# Altium footprint library BGA_Sq_150P.PcbLib: 51 footprints (part 4 of 7)
Each footprint in its own frame and in the unit in brackets; x right, y up, seen from the top. Pads: shape width x height; smd on the part's side, far side on the other; paste and mask are expansions set on the pad; w line width, h text height; cw(c..) or ccw(c..) is an arc to the next point about the centre after c.
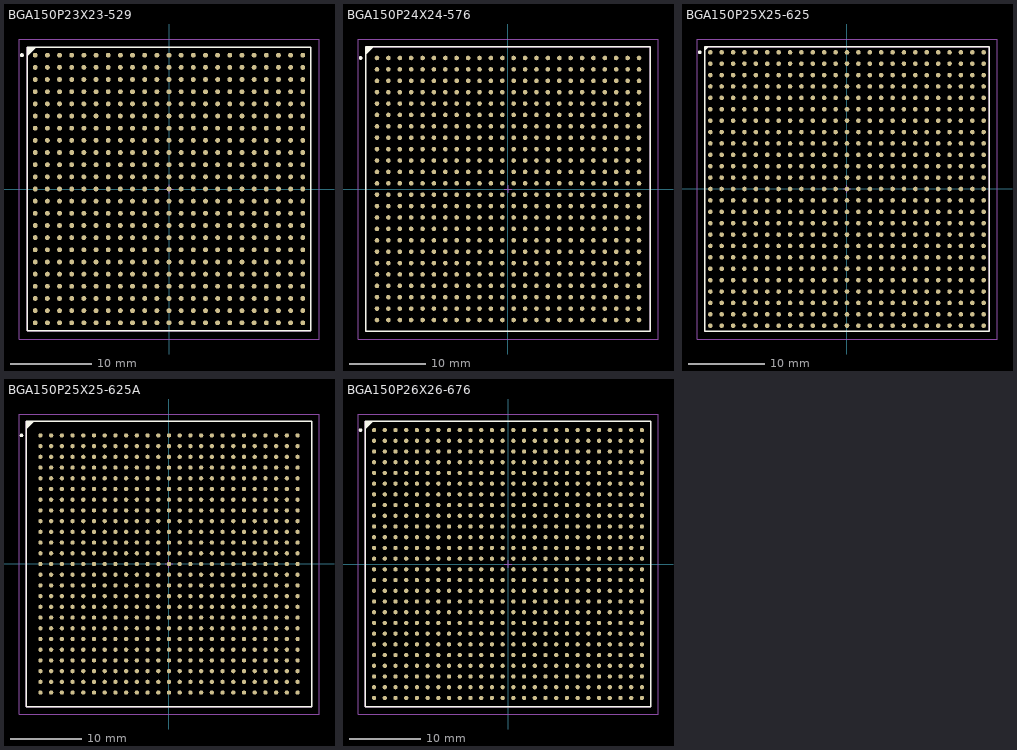
[diagram p3: the footprints below, top view; thin cyan lines are the x and y axes]

## BGA150P23X23-529 [mm] "BGA, 529-Leads, Body 35x35mm, Pitch 1.5mm"
height 3.5
pads (529):
  round 0.6 smd: A1(-16.5,16.5) A2(-15,16.5) A3(-13.5,16.5) A4(-12,16.5) A5(-10.5,16.5) A6(-9,16.5) A7(-7.5,16.5) A8(-6,16.5) A9(-4.5,16.5) A10(-3,16.5) A11(-1.5,16.5) A12(0,16.5) A13(1.5,16.5) A14(3,16.5) A15(4.5,16.5) A16(6,16.5) A17(7.5,16.5) A18(9,16.5) A19(10.5,16.5) A20(12,16.5) A21(13.5,16.5) A22(15,16.5) A23(16.5,16.5) AA1(-16.5,-13.5) AA2(-15,-13.5) AA3(-13.5,-13.5) AA4(-12,-13.5) AA5(-10.5,-13.5) AA6(-9,-13.5) AA7(-7.5,-13.5) AA8(-6,-13.5) AA9(-4.5,-13.5) AA10(-3,-13.5) AA11(-1.5,-13.5) AA12(0,-13.5) AA13(1.5,-13.5) AA14(3,-13.5) AA15(4.5,-13.5) AA16(6,-13.5) AA17(7.5,-13.5) AA18(9,-13.5) AA19(10.5,-13.5) AA20(12,-13.5) AA21(13.5,-13.5) AA22(15,-13.5) AA23(16.5,-13.5) AB1(-16.5,-15) AB2(-15,-15) AB3(-13.5,-15) AB4(-12,-15) AB5(-10.5,-15) AB6(-9,-15) AB7(-7.5,-15) AB8(-6,-15) AB9(-4.5,-15) AB10(-3,-15) AB11(-1.5,-15) AB12(0,-15) AB13(1.5,-15) AB14(3,-15) AB15(4.5,-15) AB16(6,-15) AB17(7.5,-15) AB18(9,-15) AB19(10.5,-15) AB20(12,-15) AB21(13.5,-15) AB22(15,-15) AB23(16.5,-15) AC1(-16.5,-16.5) AC2(-15,-16.5) AC3(-13.5,-16.5) AC4(-12,-16.5) AC5(-10.5,-16.5) AC6(-9,-16.5) AC7(-7.5,-16.5) AC8(-6,-16.5) AC9(-4.5,-16.5) AC10(-3,-16.5) AC11(-1.5,-16.5) AC12(0,-16.5) AC13(1.5,-16.5) AC14(3,-16.5) AC15(4.5,-16.5) AC16(6,-16.5) AC17(7.5,-16.5) AC18(9,-16.5) AC19(10.5,-16.5) AC20(12,-16.5) AC21(13.5,-16.5) AC22(15,-16.5) AC23(16.5,-16.5) B1(-16.5,15) B2(-15,15) B3(-13.5,15) B4(-12,15) B5(-10.5,15) B6(-9,15) B7(-7.5,15) B8(-6,15) B9(-4.5,15) B10(-3,15) B11(-1.5,15) B12(0,15) B13(1.5,15) B14(3,15) B15(4.5,15) B16(6,15) B17(7.5,15) B18(9,15) B19(10.5,15) B20(12,15) B21(13.5,15) B22(15,15) B23(16.5,15) C1(-16.5,13.5) C2(-15,13.5) C3(-13.5,13.5) C4(-12,13.5) C5(-10.5,13.5) C6(-9,13.5) C7(-7.5,13.5) C8(-6,13.5) C9(-4.5,13.5) C10(-3,13.5) C11(-1.5,13.5) C12(0,13.5) C13(1.5,13.5) C14(3,13.5) C15(4.5,13.5) C16(6,13.5) C17(7.5,13.5) C18(9,13.5) C19(10.5,13.5) C20(12,13.5) C21(13.5,13.5) C22(15,13.5) C23(16.5,13.5) D1(-16.5,12) D2(-15,12) D3(-13.5,12) D4(-12,12) D5(-10.5,12) D6(-9,12) D7(-7.5,12) D8(-6,12) D9(-4.5,12) D10(-3,12) D11(-1.5,12) D12(0,12) D13(1.5,12) D14(3,12) D15(4.5,12) D16(6,12) D17(7.5,12) D18(9,12) D19(10.5,12) D20(12,12) D21(13.5,12) D22(15,12) D23(16.5,12) E1(-16.5,10.5) E2(-15,10.5) E3(-13.5,10.5) E4(-12,10.5) E5(-10.5,10.5) E6(-9,10.5) E7(-7.5,10.5) E8(-6,10.5) E9(-4.5,10.5) E10(-3,10.5) E11(-1.5,10.5) E12(0,10.5) E13(1.5,10.5) E14(3,10.5) E15(4.5,10.5) E16(6,10.5) E17(7.5,10.5) E18(9,10.5) E19(10.5,10.5) E20(12,10.5) E21(13.5,10.5) E22(15,10.5) E23(16.5,10.5) F1(-16.5,9) F2(-15,9) F3(-13.5,9) F4(-12,9) F5(-10.5,9) F6(-9,9) F7(-7.5,9) F8(-6,9) F9(-4.5,9) F10(-3,9) F11(-1.5,9) F12(0,9) F13(1.5,9) F14(3,9) F15(4.5,9) F16(6,9) F17(7.5,9) F18(9,9) F19(10.5,9) F20(12,9) F21(13.5,9) F22(15,9) F23(16.5,9) G1(-16.5,7.5) G2(-15,7.5) G3(-13.5,7.5) G4(-12,7.5) G5(-10.5,7.5) G6(-9,7.5) G7(-7.5,7.5) G8(-6,7.5) G9(-4.5,7.5) G10(-3,7.5) G11(-1.5,7.5) G12(0,7.5) G13(1.5,7.5) G14(3,7.5) G15(4.5,7.5) G16(6,7.5) G17(7.5,7.5) G18(9,7.5) G19(10.5,7.5) G20(12,7.5) G21(13.5,7.5) G22(15,7.5) G23(16.5,7.5) H1(-16.5,6) H2(-15,6) H3(-13.5,6) H4(-12,6) H5(-10.5,6) H6(-9,6) H7(-7.5,6) H8(-6,6) H9(-4.5,6) H10(-3,6) H11(-1.5,6) H12(0,6) H13(1.5,6) H14(3,6) H15(4.5,6) H16(6,6) H17(7.5,6) H18(9,6) H19(10.5,6) H20(12,6) H21(13.5,6) H22(15,6) H23(16.5,6) J1(-16.5,4.5) J2(-15,4.5) J3(-13.5,4.5) J4(-12,4.5) J5(-10.5,4.5) J6(-9,4.5) J7(-7.5,4.5) J8(-6,4.5) J9(-4.5,4.5) J10(-3,4.5) J11(-1.5,4.5) J12(0,4.5) J13(1.5,4.5) J14(3,4.5) J15(4.5,4.5) J16(6,4.5) J17(7.5,4.5) J18(9,4.5) J19(10.5,4.5) J20(12,4.5) J21(13.5,4.5) J22(15,4.5) J23(16.5,4.5) K1(-16.5,3) K2(-15,3) K3(-13.5,3) K4(-12,3) K5(-10.5,3) K6(-9,3) K7(-7.5,3) K8(-6,3) K9(-4.5,3) K10(-3,3) K11(-1.5,3) K12(0,3) K13(1.5,3) K14(3,3) K15(4.5,3) K16(6,3) K17(7.5,3) K18(9,3) K19(10.5,3) K20(12,3) K21(13.5,3) K22(15,3) K23(16.5,3) L1(-16.5,1.5) L2(-15,1.5) L3(-13.5,1.5) L4(-12,1.5) L5(-10.5,1.5) L6(-9,1.5) L7(-7.5,1.5) L8(-6,1.5) L9(-4.5,1.5) L10(-3,1.5) L11(-1.5,1.5) L12(0,1.5) L13(1.5,1.5) L14(3,1.5) L15(4.5,1.5) L16(6,1.5) L17(7.5,1.5) L18(9,1.5) L19(10.5,1.5) L20(12,1.5) L21(13.5,1.5) L22(15,1.5) L23(16.5,1.5) M1(-16.5,0) M2(-15,0) M3(-13.5,0) M4(-12,0) M5(-10.5,0) M6(-9,0) M7(-7.5,0) M8(-6,0) M9(-4.5,0) M10(-3,0) M11(-1.5,0) M12(0,0) M13(1.5,0) M14(3,0) M15(4.5,0) M16(6,0) M17(7.5,0) M18(9,0) M19(10.5,0) M20(12,0) M21(13.5,0) M22(15,0) M23(16.5,0) N1(-16.5,-1.5) N2(-15,-1.5) N3(-13.5,-1.5) N4(-12,-1.5) N5(-10.5,-1.5) N6(-9,-1.5) N7(-7.5,-1.5) N8(-6,-1.5) N9(-4.5,-1.5) N10(-3,-1.5) N11(-1.5,-1.5) N12(0,-1.5) N13(1.5,-1.5) N14(3,-1.5) N15(4.5,-1.5) N16(6,-1.5) N17(7.5,-1.5) N18(9,-1.5) N19(10.5,-1.5) N20(12,-1.5) N21(13.5,-1.5) N22(15,-1.5) N23(16.5,-1.5) P1(-16.5,-3) P2(-15,-3) P3(-13.5,-3) P4(-12,-3) P5(-10.5,-3) P6(-9,-3) P7(-7.5,-3) P8(-6,-3) P9(-4.5,-3) P10(-3,-3) P11(-1.5,-3) P12(0,-3) P13(1.5,-3) P14(3,-3) P15(4.5,-3) P16(6,-3) P17(7.5,-3) P18(9,-3) P19(10.5,-3) P20(12,-3) P21(13.5,-3) P22(15,-3) P23(16.5,-3) R1(-16.5,-4.5) R2(-15,-4.5) R3(-13.5,-4.5) R4(-12,-4.5) R5(-10.5,-4.5) R6(-9,-4.5) R7(-7.5,-4.5) R8(-6,-4.5) R9(-4.5,-4.5) R10(-3,-4.5) R11(-1.5,-4.5) R12(0,-4.5) R13(1.5,-4.5) R14(3,-4.5) R15(4.5,-4.5) R16(6,-4.5) R17(7.5,-4.5) R18(9,-4.5) R19(10.5,-4.5) R20(12,-4.5) R21(13.5,-4.5) R22(15,-4.5) R23(16.5,-4.5) T1(-16.5,-6) T2(-15,-6) T3(-13.5,-6) T4(-12,-6) T5(-10.5,-6) T6(-9,-6) T7(-7.5,-6) T8(-6,-6) T9(-4.5,-6) T10(-3,-6) T11(-1.5,-6) T12(0,-6) T13(1.5,-6) T14(3,-6) T15(4.5,-6) T16(6,-6) T17(7.5,-6) T18(9,-6) T19(10.5,-6) T20(12,-6) T21(13.5,-6) T22(15,-6) T23(16.5,-6) U1(-16.5,-7.5) U2(-15,-7.5) U3(-13.5,-7.5) U4(-12,-7.5) U5(-10.5,-7.5) U6(-9,-7.5) U7(-7.5,-7.5) U8(-6,-7.5) U9(-4.5,-7.5) U10(-3,-7.5) U11(-1.5,-7.5) U12(0,-7.5) U13(1.5,-7.5) U14(3,-7.5) U15(4.5,-7.5) U16(6,-7.5) U17(7.5,-7.5) U18(9,-7.5) U19(10.5,-7.5) U20(12,-7.5) U21(13.5,-7.5) U22(15,-7.5) U23(16.5,-7.5) V1(-16.5,-9) V2(-15,-9) V3(-13.5,-9) V4(-12,-9) V5(-10.5,-9) V6(-9,-9) V7(-7.5,-9) V8(-6,-9) V9(-4.5,-9) V10(-3,-9) V11(-1.5,-9) V12(0,-9) V13(1.5,-9) V14(3,-9) V15(4.5,-9) V16(6,-9) V17(7.5,-9) V18(9,-9) V19(10.5,-9) V20(12,-9) V21(13.5,-9) V22(15,-9) V23(16.5,-9) W1(-16.5,-10.5) W2(-15,-10.5) W3(-13.5,-10.5) W4(-12,-10.5) W5(-10.5,-10.5) W6(-9,-10.5) W7(-7.5,-10.5) W8(-6,-10.5) W9(-4.5,-10.5) W10(-3,-10.5) W11(-1.5,-10.5) W12(0,-10.5) W13(1.5,-10.5) W14(3,-10.5) W15(4.5,-10.5) W16(6,-10.5) W17(7.5,-10.5) W18(9,-10.5) W19(10.5,-10.5) W20(12,-10.5) W21(13.5,-10.5) W22(15,-10.5) W23(16.5,-10.5) Y1(-16.5,-12) Y2(-15,-12) Y3(-13.5,-12) Y4(-12,-12) Y5(-10.5,-12) Y6(-9,-12) Y7(-7.5,-12) Y8(-6,-12) Y9(-4.5,-12) Y10(-3,-12) Y11(-1.5,-12) Y12(0,-12) Y13(1.5,-12) Y14(3,-12) Y15(4.5,-12) Y16(6,-12) Y17(7.5,-12) Y18(9,-12) Y19(10.5,-12) Y20(12,-12) Y21(13.5,-12) Y22(15,-12) Y23(16.5,-12)
Top Overlay:
  circle w0.25: c-18.15,16.5 r0.125
  region: -16.5,17.5 -17.5,16.5 -17.5,17.5
  lines w0.2: -17.5,16.5 -16.5,17.5 ; -17.5,-17.5 17.5,-17.5 17.5,17.5 -17.5,17.5 -17.5,-17.5
Mechanical 13:
  lines w0.1: -17.5,-17.5 17.5,-17.5 17.5,17.5 -17.5,17.5 -17.5,-17.5
Mechanical 15:
  lines w0.1: -0.5,0 0.5,0 ; 0,-0.5 0,0.5 ; -18.5,-18.5 18.5,-18.5 18.5,18.5 -18.5,18.5 -18.5,-18.5
3D body: height 3.5, standoff 0, extent -17.5,-17.5 17.5,17.5

## BGA150P24X24-576 [mm] "BGA, 576-Leads, Body 37.5x37.5mm, Pitch 1.5mm"
height 3.5
pads (576):
  round 0.6 smd: A1(-17.25,17.25) A2(-15.75,17.25) A3(-14.25,17.25) A4(-12.75,17.25) A5(-11.25,17.25) A6(-9.75,17.25) A7(-8.25,17.25) A8(-6.75,17.25) A9(-5.25,17.25) A10(-3.75,17.25) A11(-2.25,17.25) A12(-0.75,17.25) A13(0.75,17.25) A14(2.25,17.25) A15(3.75,17.25) A16(5.25,17.25) A17(6.75,17.25) A18(8.25,17.25) A19(9.75,17.25) A20(11.25,17.25) A21(12.75,17.25) A22(14.25,17.25) A23(15.75,17.25) A24(17.25,17.25) AA1(-17.25,-12.75) AA2(-15.75,-12.75) AA3(-14.25,-12.75) AA4(-12.75,-12.75) AA5(-11.25,-12.75) AA6(-9.75,-12.75) AA7(-8.25,-12.75) AA8(-6.75,-12.75) AA9(-5.25,-12.75) AA10(-3.75,-12.75) AA11(-2.25,-12.75) AA12(-0.75,-12.75) AA13(0.75,-12.75) AA14(2.25,-12.75) AA15(3.75,-12.75) AA16(5.25,-12.75) AA17(6.75,-12.75) AA18(8.25,-12.75) AA19(9.75,-12.75) AA20(11.25,-12.75) AA21(12.75,-12.75) AA22(14.25,-12.75) AA23(15.75,-12.75) AA24(17.25,-12.75) AB1(-17.25,-14.25) AB2(-15.75,-14.25) AB3(-14.25,-14.25) AB4(-12.75,-14.25) AB5(-11.25,-14.25) AB6(-9.75,-14.25) AB7(-8.25,-14.25) AB8(-6.75,-14.25) AB9(-5.25,-14.25) AB10(-3.75,-14.25) AB11(-2.25,-14.25) AB12(-0.75,-14.25) AB13(0.75,-14.25) AB14(2.25,-14.25) AB15(3.75,-14.25) AB16(5.25,-14.25) AB17(6.75,-14.25) AB18(8.25,-14.25) AB19(9.75,-14.25) AB20(11.25,-14.25) AB21(12.75,-14.25) AB22(14.25,-14.25) AB23(15.75,-14.25) AB24(17.25,-14.25) AC1(-17.25,-15.75) AC2(-15.75,-15.75) AC3(-14.25,-15.75) AC4(-12.75,-15.75) AC5(-11.25,-15.75) AC6(-9.75,-15.75) AC7(-8.25,-15.75) AC8(-6.75,-15.75) AC9(-5.25,-15.75) AC10(-3.75,-15.75) AC11(-2.25,-15.75) AC12(-0.75,-15.75) AC13(0.75,-15.75) AC14(2.25,-15.75) AC15(3.75,-15.75) AC16(5.25,-15.75) AC17(6.75,-15.75) AC18(8.25,-15.75) AC19(9.75,-15.75) AC20(11.25,-15.75) AC21(12.75,-15.75) AC22(14.25,-15.75) AC23(15.75,-15.75) AC24(17.25,-15.75) AD1(-17.25,-17.25) AD2(-15.75,-17.25) AD3(-14.25,-17.25) AD4(-12.75,-17.25) AD5(-11.25,-17.25) AD6(-9.75,-17.25) AD7(-8.25,-17.25) AD8(-6.75,-17.25) AD9(-5.25,-17.25) AD10(-3.75,-17.25) AD11(-2.25,-17.25) AD12(-0.75,-17.25) AD13(0.75,-17.25) AD14(2.25,-17.25) AD15(3.75,-17.25) AD16(5.25,-17.25) AD17(6.75,-17.25) AD18(8.25,-17.25) AD19(9.75,-17.25) AD20(11.25,-17.25) AD21(12.75,-17.25) AD22(14.25,-17.25) AD23(15.75,-17.25) AD24(17.25,-17.25) B1(-17.25,15.75) B2(-15.75,15.75) B3(-14.25,15.75) B4(-12.75,15.75) B5(-11.25,15.75) B6(-9.75,15.75) B7(-8.25,15.75) B8(-6.75,15.75) B9(-5.25,15.75) B10(-3.75,15.75) B11(-2.25,15.75) B12(-0.75,15.75) B13(0.75,15.75) B14(2.25,15.75) B15(3.75,15.75) B16(5.25,15.75) B17(6.75,15.75) B18(8.25,15.75) B19(9.75,15.75) B20(11.25,15.75) B21(12.75,15.75) B22(14.25,15.75) B23(15.75,15.75) B24(17.25,15.75) C1(-17.25,14.25) C2(-15.75,14.25) C3(-14.25,14.25) C4(-12.75,14.25) C5(-11.25,14.25) C6(-9.75,14.25) C7(-8.25,14.25) C8(-6.75,14.25) C9(-5.25,14.25) C10(-3.75,14.25) C11(-2.25,14.25) C12(-0.75,14.25) C13(0.75,14.25) C14(2.25,14.25) C15(3.75,14.25) C16(5.25,14.25) C17(6.75,14.25) C18(8.25,14.25) C19(9.75,14.25) C20(11.25,14.25) C21(12.75,14.25) C22(14.25,14.25) C23(15.75,14.25) C24(17.25,14.25) D1(-17.25,12.75) D2(-15.75,12.75) D3(-14.25,12.75) D4(-12.75,12.75) D5(-11.25,12.75) D6(-9.75,12.75) D7(-8.25,12.75) D8(-6.75,12.75) D9(-5.25,12.75) D10(-3.75,12.75) D11(-2.25,12.75) D12(-0.75,12.75) D13(0.75,12.75) D14(2.25,12.75) D15(3.75,12.75) D16(5.25,12.75) D17(6.75,12.75) D18(8.25,12.75) D19(9.75,12.75) D20(11.25,12.75) D21(12.75,12.75) D22(14.25,12.75) D23(15.75,12.75) D24(17.25,12.75) E1(-17.25,11.25) E2(-15.75,11.25) E3(-14.25,11.25) E4(-12.75,11.25) E5(-11.25,11.25) E6(-9.75,11.25) E7(-8.25,11.25) E8(-6.75,11.25) E9(-5.25,11.25) E10(-3.75,11.25) E11(-2.25,11.25) E12(-0.75,11.25) E13(0.75,11.25) E14(2.25,11.25) E15(3.75,11.25) E16(5.25,11.25) E17(6.75,11.25) E18(8.25,11.25) E19(9.75,11.25) E20(11.25,11.25) E21(12.75,11.25) E22(14.25,11.25) E23(15.75,11.25) E24(17.25,11.25) F1(-17.25,9.75) F2(-15.75,9.75) F3(-14.25,9.75) F4(-12.75,9.75) F5(-11.25,9.75) F6(-9.75,9.75) F7(-8.25,9.75) F8(-6.75,9.75) F9(-5.25,9.75) F10(-3.75,9.75) F11(-2.25,9.75) F12(-0.75,9.75) F13(0.75,9.75) F14(2.25,9.75) F15(3.75,9.75) F16(5.25,9.75) F17(6.75,9.75) F18(8.25,9.75) F19(9.75,9.75) F20(11.25,9.75) F21(12.75,9.75) F22(14.25,9.75) F23(15.75,9.75) F24(17.25,9.75) G1(-17.25,8.25) G2(-15.75,8.25) G3(-14.25,8.25) G4(-12.75,8.25) G5(-11.25,8.25) G6(-9.75,8.25) G7(-8.25,8.25) G8(-6.75,8.25) G9(-5.25,8.25) G10(-3.75,8.25) G11(-2.25,8.25) G12(-0.75,8.25) G13(0.75,8.25) G14(2.25,8.25) G15(3.75,8.25) G16(5.25,8.25) G17(6.75,8.25) G18(8.25,8.25) G19(9.75,8.25) G20(11.25,8.25) G21(12.75,8.25) G22(14.25,8.25) G23(15.75,8.25) G24(17.25,8.25) H1(-17.25,6.75) H2(-15.75,6.75) H3(-14.25,6.75) H4(-12.75,6.75) H5(-11.25,6.75) H6(-9.75,6.75) H7(-8.25,6.75) H8(-6.75,6.75) H9(-5.25,6.75) H10(-3.75,6.75) H11(-2.25,6.75) H12(-0.75,6.75) H13(0.75,6.75) H14(2.25,6.75) H15(3.75,6.75) H16(5.25,6.75) H17(6.75,6.75) H18(8.25,6.75) H19(9.75,6.75) H20(11.25,6.75) H21(12.75,6.75) H22(14.25,6.75) H23(15.75,6.75) H24(17.25,6.75) J1(-17.25,5.25) J2(-15.75,5.25) J3(-14.25,5.25) J4(-12.75,5.25) J5(-11.25,5.25) J6(-9.75,5.25) J7(-8.25,5.25) J8(-6.75,5.25) J9(-5.25,5.25) J10(-3.75,5.25) J11(-2.25,5.25) J12(-0.75,5.25) J13(0.75,5.25) J14(2.25,5.25) J15(3.75,5.25) J16(5.25,5.25) J17(6.75,5.25) J18(8.25,5.25) J19(9.75,5.25) J20(11.25,5.25) J21(12.75,5.25) J22(14.25,5.25) J23(15.75,5.25) J24(17.25,5.25) K1(-17.25,3.75) K2(-15.75,3.75) K3(-14.25,3.75) K4(-12.75,3.75) K5(-11.25,3.75) K6(-9.75,3.75) K7(-8.25,3.75) K8(-6.75,3.75) K9(-5.25,3.75) K10(-3.75,3.75) K11(-2.25,3.75) K12(-0.75,3.75) K13(0.75,3.75) K14(2.25,3.75) K15(3.75,3.75) K16(5.25,3.75) K17(6.75,3.75) K18(8.25,3.75) K19(9.75,3.75) K20(11.25,3.75) K21(12.75,3.75) K22(14.25,3.75) K23(15.75,3.75) K24(17.25,3.75) L1(-17.25,2.25) L2(-15.75,2.25) L3(-14.25,2.25) L4(-12.75,2.25) L5(-11.25,2.25) L6(-9.75,2.25) L7(-8.25,2.25) L8(-6.75,2.25) L9(-5.25,2.25) L10(-3.75,2.25) L11(-2.25,2.25) L12(-0.75,2.25) L13(0.75,2.25) L14(2.25,2.25) L15(3.75,2.25) L16(5.25,2.25) L17(6.75,2.25) L18(8.25,2.25) L19(9.75,2.25) L20(11.25,2.25) L21(12.75,2.25) L22(14.25,2.25) L23(15.75,2.25) L24(17.25,2.25) M1(-17.25,0.75) M2(-15.75,0.75) M3(-14.25,0.75) M4(-12.75,0.75) M5(-11.25,0.75) M6(-9.75,0.75) M7(-8.25,0.75) M8(-6.75,0.75) M9(-5.25,0.75) M10(-3.75,0.75) M11(-2.25,0.75) M12(-0.75,0.75) M13(0.75,0.75) M14(2.25,0.75) M15(3.75,0.75) M16(5.25,0.75) M17(6.75,0.75) M18(8.25,0.75) M19(9.75,0.75) M20(11.25,0.75) M21(12.75,0.75) M22(14.25,0.75) M23(15.75,0.75) M24(17.25,0.75) N1(-17.25,-0.75) N2(-15.75,-0.75) N3(-14.25,-0.75) N4(-12.75,-0.75) N5(-11.25,-0.75) N6(-9.75,-0.75) N7(-8.25,-0.75) N8(-6.75,-0.75) N9(-5.25,-0.75) N10(-3.75,-0.75) N11(-2.25,-0.75) N12(-0.75,-0.75) N13(0.75,-0.75) N14(2.25,-0.75) N15(3.75,-0.75) N16(5.25,-0.75) N17(6.75,-0.75) N18(8.25,-0.75) N19(9.75,-0.75) N20(11.25,-0.75) N21(12.75,-0.75) N22(14.25,-0.75) N23(15.75,-0.75) N24(17.25,-0.75) P1(-17.25,-2.25) P2(-15.75,-2.25) P3(-14.25,-2.25) P4(-12.75,-2.25) P5(-11.25,-2.25) P6(-9.75,-2.25) P7(-8.25,-2.25) P8(-6.75,-2.25) P9(-5.25,-2.25) P10(-3.75,-2.25) P11(-2.25,-2.25) P12(-0.75,-2.25) P13(0.75,-2.25) P14(2.25,-2.25) P15(3.75,-2.25) P16(5.25,-2.25) P17(6.75,-2.25) P18(8.25,-2.25) P19(9.75,-2.25) P20(11.25,-2.25) P21(12.75,-2.25) P22(14.25,-2.25) P23(15.75,-2.25) P24(17.25,-2.25) R1(-17.25,-3.75) R2(-15.75,-3.75) R3(-14.25,-3.75) R4(-12.75,-3.75) R5(-11.25,-3.75) R6(-9.75,-3.75) R7(-8.25,-3.75) R8(-6.75,-3.75) R9(-5.25,-3.75) R10(-3.75,-3.75) R11(-2.25,-3.75) R12(-0.75,-3.75) R13(0.75,-3.75) R14(2.25,-3.75) R15(3.75,-3.75) R16(5.25,-3.75) R17(6.75,-3.75) R18(8.25,-3.75) R19(9.75,-3.75) R20(11.25,-3.75) R21(12.75,-3.75) R22(14.25,-3.75) R23(15.75,-3.75) R24(17.25,-3.75) T1(-17.25,-5.25) T2(-15.75,-5.25) T3(-14.25,-5.25) T4(-12.75,-5.25) T5(-11.25,-5.25) T6(-9.75,-5.25) T7(-8.25,-5.25) T8(-6.75,-5.25) T9(-5.25,-5.25) T10(-3.75,-5.25) T11(-2.25,-5.25) T12(-0.75,-5.25) T13(0.75,-5.25) T14(2.25,-5.25) T15(3.75,-5.25) T16(5.25,-5.25) T17(6.75,-5.25) T18(8.25,-5.25) T19(9.75,-5.25) T20(11.25,-5.25) T21(12.75,-5.25) T22(14.25,-5.25) T23(15.75,-5.25) T24(17.25,-5.25) U1(-17.25,-6.75) U2(-15.75,-6.75) U3(-14.25,-6.75) U4(-12.75,-6.75) U5(-11.25,-6.75) U6(-9.75,-6.75) U7(-8.25,-6.75) U8(-6.75,-6.75) U9(-5.25,-6.75) U10(-3.75,-6.75) U11(-2.25,-6.75) U12(-0.75,-6.75) U13(0.75,-6.75) U14(2.25,-6.75) U15(3.75,-6.75) U16(5.25,-6.75) U17(6.75,-6.75) U18(8.25,-6.75) U19(9.75,-6.75) U20(11.25,-6.75) U21(12.75,-6.75) U22(14.25,-6.75) U23(15.75,-6.75) U24(17.25,-6.75) V1(-17.25,-8.25) V2(-15.75,-8.25) V3(-14.25,-8.25) V4(-12.75,-8.25) V5(-11.25,-8.25) V6(-9.75,-8.25) V7(-8.25,-8.25) V8(-6.75,-8.25) V9(-5.25,-8.25) V10(-3.75,-8.25) V11(-2.25,-8.25) V12(-0.75,-8.25) V13(0.75,-8.25) V14(2.25,-8.25) V15(3.75,-8.25) V16(5.25,-8.25) V17(6.75,-8.25) V18(8.25,-8.25) V19(9.75,-8.25) V20(11.25,-8.25) V21(12.75,-8.25) V22(14.25,-8.25) V23(15.75,-8.25) V24(17.25,-8.25) W1(-17.25,-9.75) W2(-15.75,-9.75) W3(-14.25,-9.75) W4(-12.75,-9.75) W5(-11.25,-9.75) W6(-9.75,-9.75) W7(-8.25,-9.75) W8(-6.75,-9.75) W9(-5.25,-9.75) W10(-3.75,-9.75) W11(-2.25,-9.75) W12(-0.75,-9.75) W13(0.75,-9.75) W14(2.25,-9.75) W15(3.75,-9.75) W16(5.25,-9.75) W17(6.75,-9.75) W18(8.25,-9.75) W19(9.75,-9.75) W20(11.25,-9.75) W21(12.75,-9.75) W22(14.25,-9.75) W23(15.75,-9.75) W24(17.25,-9.75) Y1(-17.25,-11.25) Y2(-15.75,-11.25) Y3(-14.25,-11.25) Y4(-12.75,-11.25) Y5(-11.25,-11.25) Y6(-9.75,-11.25) Y7(-8.25,-11.25) Y8(-6.75,-11.25) Y9(-5.25,-11.25) Y10(-3.75,-11.25) Y11(-2.25,-11.25) Y12(-0.75,-11.25) Y13(0.75,-11.25) Y14(2.25,-11.25) Y15(3.75,-11.25) Y16(5.25,-11.25) Y17(6.75,-11.25) Y18(8.25,-11.25) Y19(9.75,-11.25) Y20(11.25,-11.25) Y21(12.75,-11.25) Y22(14.25,-11.25) Y23(15.75,-11.25) Y24(17.25,-11.25)
Top Overlay:
  circle w0.25: c-19.4,17.25 r0.125
  region: -17.75,18.75 -18.75,17.75 -18.75,18.75
  lines w0.2: -18.75,17.75 -17.75,18.75 ; -18.75,-18.75 18.75,-18.75 18.75,18.75 -18.75,18.75 -18.75,-18.75
Mechanical 13:
  lines w0.1: -18.75,-18.75 18.75,-18.75 18.75,18.75 -18.75,18.75 -18.75,-18.75
Mechanical 15:
  lines w0.1: -0.5,0 0.5,0 ; 0,-0.5 0,0.5 ; -19.75,-19.75 19.75,-19.75 19.75,19.75 -19.75,19.75 -19.75,-19.75
3D body: height 3.5, standoff 0, extent -18.75,-18.75 18.75,18.75

## BGA150P25X25-625 [mm] "BGA, 625-Leads, Body 37.5x37.5mm, Pitch 1.5mm"
height 3.5
pads (625):
  round 0.6 smd: A1(-18,18) A2(-16.5,18) A3(-15,18) A4(-13.5,18) A5(-12,18) A6(-10.5,18) A7(-9,18) A8(-7.5,18) A9(-6,18) A10(-4.5,18) A11(-3,18) A12(-1.5,18) A13(0,18) A14(1.5,18) A15(3,18) A16(4.5,18) A17(6,18) A18(7.5,18) A19(9,18) A20(10.5,18) A21(12,18) A22(13.5,18) A23(15,18) A24(16.5,18) A25(18,18) AA1(-18,-12) AA2(-16.5,-12) AA3(-15,-12) AA4(-13.5,-12) AA5(-12,-12) AA6(-10.5,-12) AA7(-9,-12) AA8(-7.5,-12) AA9(-6,-12) AA10(-4.5,-12) AA11(-3,-12) AA12(-1.5,-12) AA13(0,-12) AA14(1.5,-12) AA15(3,-12) AA16(4.5,-12) AA17(6,-12) AA18(7.5,-12) AA19(9,-12) AA20(10.5,-12) AA21(12,-12) AA22(13.5,-12) AA23(15,-12) AA24(16.5,-12) AA25(18,-12) AB1(-18,-13.5) AB2(-16.5,-13.5) AB3(-15,-13.5) AB4(-13.5,-13.5) AB5(-12,-13.5) AB6(-10.5,-13.5) AB7(-9,-13.5) AB8(-7.5,-13.5) AB9(-6,-13.5) AB10(-4.5,-13.5) AB11(-3,-13.5) AB12(-1.5,-13.5) AB13(0,-13.5) AB14(1.5,-13.5) AB15(3,-13.5) AB16(4.5,-13.5) AB17(6,-13.5) AB18(7.5,-13.5) AB19(9,-13.5) AB20(10.5,-13.5) AB21(12,-13.5) AB22(13.5,-13.5) AB23(15,-13.5) AB24(16.5,-13.5) AB25(18,-13.5) AC1(-18,-15) AC2(-16.5,-15) AC3(-15,-15) AC4(-13.5,-15) AC5(-12,-15) AC6(-10.5,-15) AC7(-9,-15) AC8(-7.5,-15) AC9(-6,-15) AC10(-4.5,-15) AC11(-3,-15) AC12(-1.5,-15) AC13(0,-15) AC14(1.5,-15) AC15(3,-15) AC16(4.5,-15) AC17(6,-15) AC18(7.5,-15) AC19(9,-15) AC20(10.5,-15) AC21(12,-15) AC22(13.5,-15) AC23(15,-15) AC24(16.5,-15) AC25(18,-15) AD1(-18,-16.5) AD2(-16.5,-16.5) AD3(-15,-16.5) AD4(-13.5,-16.5) AD5(-12,-16.5) AD6(-10.5,-16.5) AD7(-9,-16.5) AD8(-7.5,-16.5) AD9(-6,-16.5) AD10(-4.5,-16.5) AD11(-3,-16.5) AD12(-1.5,-16.5) AD13(0,-16.5) AD14(1.5,-16.5) AD15(3,-16.5) AD16(4.5,-16.5) AD17(6,-16.5) AD18(7.5,-16.5) AD19(9,-16.5) AD20(10.5,-16.5) AD21(12,-16.5) AD22(13.5,-16.5) AD23(15,-16.5) AD24(16.5,-16.5) AD25(18,-16.5) AE1(-18,-18) AE2(-16.5,-18) AE3(-15,-18) AE4(-13.5,-18) AE5(-12,-18) AE6(-10.5,-18) AE7(-9,-18) AE8(-7.5,-18) AE9(-6,-18) AE10(-4.5,-18) AE11(-3,-18) AE12(-1.5,-18) AE13(0,-18) AE14(1.5,-18) AE15(3,-18) AE16(4.5,-18) AE17(6,-18) AE18(7.5,-18) AE19(9,-18) AE20(10.5,-18) AE21(12,-18) AE22(13.5,-18) AE23(15,-18) AE24(16.5,-18) AE25(18,-18) B1(-18,16.5) B2(-16.5,16.5) B3(-15,16.5) B4(-13.5,16.5) B5(-12,16.5) B6(-10.5,16.5) B7(-9,16.5) B8(-7.5,16.5) B9(-6,16.5) B10(-4.5,16.5) B11(-3,16.5) B12(-1.5,16.5) B13(0,16.5) B14(1.5,16.5) B15(3,16.5) B16(4.5,16.5) B17(6,16.5) B18(7.5,16.5) B19(9,16.5) B20(10.5,16.5) B21(12,16.5) B22(13.5,16.5) B23(15,16.5) B24(16.5,16.5) B25(18,16.5) C1(-18,15) C2(-16.5,15) C3(-15,15) C4(-13.5,15) C5(-12,15) C6(-10.5,15) C7(-9,15) C8(-7.5,15) C9(-6,15) C10(-4.5,15) C11(-3,15) C12(-1.5,15) C13(0,15) C14(1.5,15) C15(3,15) C16(4.5,15) C17(6,15) C18(7.5,15) C19(9,15) C20(10.5,15) C21(12,15) C22(13.5,15) C23(15,15) C24(16.5,15) C25(18,15) D1(-18,13.5) D2(-16.5,13.5) D3(-15,13.5) D4(-13.5,13.5) D5(-12,13.5) D6(-10.5,13.5) D7(-9,13.5) D8(-7.5,13.5) D9(-6,13.5) D10(-4.5,13.5) D11(-3,13.5) D12(-1.5,13.5) D13(0,13.5) D14(1.5,13.5) D15(3,13.5) D16(4.5,13.5) D17(6,13.5) D18(7.5,13.5) D19(9,13.5) D20(10.5,13.5) D21(12,13.5) D22(13.5,13.5) D23(15,13.5) D24(16.5,13.5) D25(18,13.5) E1(-18,12) E2(-16.5,12) E3(-15,12) E4(-13.5,12) E5(-12,12) E6(-10.5,12) E7(-9,12) E8(-7.5,12) E9(-6,12) E10(-4.5,12) E11(-3,12) E12(-1.5,12) E13(0,12) E14(1.5,12) E15(3,12) E16(4.5,12) E17(6,12) E18(7.5,12) E19(9,12) E20(10.5,12) E21(12,12) E22(13.5,12) E23(15,12) E24(16.5,12) E25(18,12) F1(-18,10.5) F2(-16.5,10.5) F3(-15,10.5) F4(-13.5,10.5) F5(-12,10.5) F6(-10.5,10.5) F7(-9,10.5) F8(-7.5,10.5) F9(-6,10.5) F10(-4.5,10.5) F11(-3,10.5) F12(-1.5,10.5) F13(0,10.5) F14(1.5,10.5) F15(3,10.5) F16(4.5,10.5) F17(6,10.5) F18(7.5,10.5) F19(9,10.5) F20(10.5,10.5) F21(12,10.5) F22(13.5,10.5) F23(15,10.5) F24(16.5,10.5) F25(18,10.5) G1(-18,9) G2(-16.5,9) G3(-15,9) G4(-13.5,9) G5(-12,9) G6(-10.5,9) G7(-9,9) G8(-7.5,9) G9(-6,9) G10(-4.5,9) G11(-3,9) G12(-1.5,9) G13(0,9) G14(1.5,9) G15(3,9) G16(4.5,9) G17(6,9) G18(7.5,9) G19(9,9) G20(10.5,9) G21(12,9) G22(13.5,9) G23(15,9) G24(16.5,9) G25(18,9) H1(-18,7.5) H2(-16.5,7.5) H3(-15,7.5) H4(-13.5,7.5) H5(-12,7.5) H6(-10.5,7.5) H7(-9,7.5) H8(-7.5,7.5) H9(-6,7.5) H10(-4.5,7.5) H11(-3,7.5) H12(-1.5,7.5) H13(0,7.5) H14(1.5,7.5) H15(3,7.5) H16(4.5,7.5) H17(6,7.5) H18(7.5,7.5) H19(9,7.5) H20(10.5,7.5) H21(12,7.5) H22(13.5,7.5) H23(15,7.5) H24(16.5,7.5) H25(18,7.5) J1(-18,6) J2(-16.5,6) J3(-15,6) J4(-13.5,6) J5(-12,6) J6(-10.5,6) J7(-9,6) J8(-7.5,6) J9(-6,6) J10(-4.5,6) J11(-3,6) J12(-1.5,6) J13(0,6) J14(1.5,6) J15(3,6) J16(4.5,6) J17(6,6) J18(7.5,6) J19(9,6) J20(10.5,6) J21(12,6) J22(13.5,6) J23(15,6) J24(16.5,6) J25(18,6) K1(-18,4.5) K2(-16.5,4.5) K3(-15,4.5) K4(-13.5,4.5) K5(-12,4.5) K6(-10.5,4.5) K7(-9,4.5) K8(-7.5,4.5) K9(-6,4.5) K10(-4.5,4.5) K11(-3,4.5) K12(-1.5,4.5) K13(0,4.5) K14(1.5,4.5) K15(3,4.5) K16(4.5,4.5) K17(6,4.5) K18(7.5,4.5) K19(9,4.5) K20(10.5,4.5) K21(12,4.5) K22(13.5,4.5) K23(15,4.5) K24(16.5,4.5) K25(18,4.5) L1(-18,3) L2(-16.5,3) L3(-15,3) L4(-13.5,3) L5(-12,3) L6(-10.5,3) L7(-9,3) L8(-7.5,3) L9(-6,3) L10(-4.5,3) L11(-3,3) L12(-1.5,3) L13(0,3) L14(1.5,3) L15(3,3) L16(4.5,3) L17(6,3) L18(7.5,3) L19(9,3) L20(10.5,3) L21(12,3) L22(13.5,3) L23(15,3) L24(16.5,3) L25(18,3) M1(-18,1.5) M2(-16.5,1.5) M3(-15,1.5) M4(-13.5,1.5) M5(-12,1.5) M6(-10.5,1.5) M7(-9,1.5) M8(-7.5,1.5) M9(-6,1.5) M10(-4.5,1.5) M11(-3,1.5) M12(-1.5,1.5) M13(0,1.5) M14(1.5,1.5) M15(3,1.5) M16(4.5,1.5) M17(6,1.5) M18(7.5,1.5) M19(9,1.5) M20(10.5,1.5) M21(12,1.5) M22(13.5,1.5) M23(15,1.5) M24(16.5,1.5) M25(18,1.5) N1(-18,0) N2(-16.5,0) N3(-15,0) N4(-13.5,0) N5(-12,0) N6(-10.5,0) N7(-9,0) N8(-7.5,0) N9(-6,0) N10(-4.5,0) N11(-3,0) N12(-1.5,0) N13(0,0) N14(1.5,0) N15(3,0) N16(4.5,0) N17(6,0) N18(7.5,0) N19(9,0) N20(10.5,0) N21(12,0) N22(13.5,0) N23(15,0) N24(16.5,0) N25(18,0) P1(-18,-1.5) P2(-16.5,-1.5) P3(-15,-1.5) P4(-13.5,-1.5) P5(-12,-1.5) P6(-10.5,-1.5) P7(-9,-1.5) P8(-7.5,-1.5) P9(-6,-1.5) P10(-4.5,-1.5) P11(-3,-1.5) P12(-1.5,-1.5) P13(0,-1.5) P14(1.5,-1.5) P15(3,-1.5) P16(4.5,-1.5) P17(6,-1.5) P18(7.5,-1.5) P19(9,-1.5) P20(10.5,-1.5) P21(12,-1.5) P22(13.5,-1.5) P23(15,-1.5) P24(16.5,-1.5) P25(18,-1.5) R1(-18,-3) R2(-16.5,-3) R3(-15,-3) R4(-13.5,-3) R5(-12,-3) R6(-10.5,-3) R7(-9,-3) R8(-7.5,-3) R9(-6,-3) R10(-4.5,-3) R11(-3,-3) R12(-1.5,-3) R13(0,-3) R14(1.5,-3) R15(3,-3) R16(4.5,-3) R17(6,-3) R18(7.5,-3) R19(9,-3) R20(10.5,-3) R21(12,-3) R22(13.5,-3) R23(15,-3) R24(16.5,-3) R25(18,-3) T1(-18,-4.5) T2(-16.5,-4.5) T3(-15,-4.5) T4(-13.5,-4.5) T5(-12,-4.5) T6(-10.5,-4.5) T7(-9,-4.5) T8(-7.5,-4.5) T9(-6,-4.5) T10(-4.5,-4.5) T11(-3,-4.5) T12(-1.5,-4.5) T13(0,-4.5) T14(1.5,-4.5) T15(3,-4.5) T16(4.5,-4.5) T17(6,-4.5) T18(7.5,-4.5) T19(9,-4.5) T20(10.5,-4.5) T21(12,-4.5) T22(13.5,-4.5) T23(15,-4.5) T24(16.5,-4.5) T25(18,-4.5) U1(-18,-6) U2(-16.5,-6) U3(-15,-6) U4(-13.5,-6) U5(-12,-6) U6(-10.5,-6) U7(-9,-6) U8(-7.5,-6) U9(-6,-6) U10(-4.5,-6) U11(-3,-6) U12(-1.5,-6) U13(0,-6) U14(1.5,-6) U15(3,-6) U16(4.5,-6) U17(6,-6) U18(7.5,-6) U19(9,-6) U20(10.5,-6) U21(12,-6) U22(13.5,-6) U23(15,-6) U24(16.5,-6) U25(18,-6) V1(-18,-7.5) V2(-16.5,-7.5) V3(-15,-7.5) V4(-13.5,-7.5) V5(-12,-7.5) V6(-10.5,-7.5) V7(-9,-7.5) V8(-7.5,-7.5) V9(-6,-7.5) V10(-4.5,-7.5) V11(-3,-7.5) V12(-1.5,-7.5) V13(0,-7.5) V14(1.5,-7.5) V15(3,-7.5) V16(4.5,-7.5) V17(6,-7.5) V18(7.5,-7.5) V19(9,-7.5) V20(10.5,-7.5) V21(12,-7.5) V22(13.5,-7.5) V23(15,-7.5) V24(16.5,-7.5) V25(18,-7.5) W1(-18,-9) W2(-16.5,-9) W3(-15,-9) W4(-13.5,-9) W5(-12,-9) W6(-10.5,-9) W7(-9,-9) W8(-7.5,-9) W9(-6,-9) W10(-4.5,-9) W11(-3,-9) W12(-1.5,-9) W13(0,-9) W14(1.5,-9) W15(3,-9) W16(4.5,-9) W17(6,-9) W18(7.5,-9) W19(9,-9) W20(10.5,-9) W21(12,-9) W22(13.5,-9) W23(15,-9) W24(16.5,-9) W25(18,-9) Y1(-18,-10.5) Y2(-16.5,-10.5) Y3(-15,-10.5) Y4(-13.5,-10.5) Y5(-12,-10.5) Y6(-10.5,-10.5) Y7(-9,-10.5) Y8(-7.5,-10.5) Y9(-6,-10.5) Y10(-4.5,-10.5) Y11(-3,-10.5) Y12(-1.5,-10.5) Y13(0,-10.5) Y14(1.5,-10.5) Y15(3,-10.5) Y16(4.5,-10.5) Y17(6,-10.5) Y18(7.5,-10.5) Y19(9,-10.5) Y20(10.5,-10.5) Y21(12,-10.5) Y22(13.5,-10.5) Y23(15,-10.5) Y24(16.5,-10.5) Y25(18,-10.5)
Top Overlay:
  circle w0.25: c-19.4,18 r0.125
  region: -18.24,18.75 -18.75,18.24 -18.75,18.75
  lines w0.2: -18.75,18.24 -18.24,18.75 ; -18.75,-18.75 18.75,-18.75 18.75,18.75 -18.75,18.75 -18.75,-18.75
Mechanical 13:
  lines w0.1: -18.75,-18.75 18.75,-18.75 18.75,18.75 -18.75,18.75 -18.75,-18.75
Mechanical 15:
  lines w0.1: -0.5,0 0.5,0 ; 0,-0.5 0,0.5 ; -19.75,-19.75 19.75,-19.75 19.75,19.75 -19.75,19.75 -19.75,-19.75
3D body: height 3.5, standoff 0, extent -18.75,-18.75 18.75,18.75

## BGA150P25X25-625A [mm] "BGA, 625-Leads, Body 40x40mm, Pitch 1.5mm"
height 3.5
pads (625):
  round 0.6 smd: A1(-18,18) A2(-16.5,18) A3(-15,18) A4(-13.5,18) A5(-12,18) A6(-10.5,18) A7(-9,18) A8(-7.5,18) A9(-6,18) A10(-4.5,18) A11(-3,18) A12(-1.5,18) A13(0,18) A14(1.5,18) A15(3,18) A16(4.5,18) A17(6,18) A18(7.5,18) A19(9,18) A20(10.5,18) A21(12,18) A22(13.5,18) A23(15,18) A24(16.5,18) A25(18,18) AA1(-18,-12) AA2(-16.5,-12) AA3(-15,-12) AA4(-13.5,-12) AA5(-12,-12) AA6(-10.5,-12) AA7(-9,-12) AA8(-7.5,-12) AA9(-6,-12) AA10(-4.5,-12) AA11(-3,-12) AA12(-1.5,-12) AA13(0,-12) AA14(1.5,-12) AA15(3,-12) AA16(4.5,-12) AA17(6,-12) AA18(7.5,-12) AA19(9,-12) AA20(10.5,-12) AA21(12,-12) AA22(13.5,-12) AA23(15,-12) AA24(16.5,-12) AA25(18,-12) AB1(-18,-13.5) AB2(-16.5,-13.5) AB3(-15,-13.5) AB4(-13.5,-13.5) AB5(-12,-13.5) AB6(-10.5,-13.5) AB7(-9,-13.5) AB8(-7.5,-13.5) AB9(-6,-13.5) AB10(-4.5,-13.5) AB11(-3,-13.5) AB12(-1.5,-13.5) AB13(0,-13.5) AB14(1.5,-13.5) AB15(3,-13.5) AB16(4.5,-13.5) AB17(6,-13.5) AB18(7.5,-13.5) AB19(9,-13.5) AB20(10.5,-13.5) AB21(12,-13.5) AB22(13.5,-13.5) AB23(15,-13.5) AB24(16.5,-13.5) AB25(18,-13.5) AC1(-18,-15) AC2(-16.5,-15) AC3(-15,-15) AC4(-13.5,-15) AC5(-12,-15) AC6(-10.5,-15) AC7(-9,-15) AC8(-7.5,-15) AC9(-6,-15) AC10(-4.5,-15) AC11(-3,-15) AC12(-1.5,-15) AC13(0,-15) AC14(1.5,-15) AC15(3,-15) AC16(4.5,-15) AC17(6,-15) AC18(7.5,-15) AC19(9,-15) AC20(10.5,-15) AC21(12,-15) AC22(13.5,-15) AC23(15,-15) AC24(16.5,-15) AC25(18,-15) AD1(-18,-16.5) AD2(-16.5,-16.5) AD3(-15,-16.5) AD4(-13.5,-16.5) AD5(-12,-16.5) AD6(-10.5,-16.5) AD7(-9,-16.5) AD8(-7.5,-16.5) AD9(-6,-16.5) AD10(-4.5,-16.5) AD11(-3,-16.5) AD12(-1.5,-16.5) AD13(0,-16.5) AD14(1.5,-16.5) AD15(3,-16.5) AD16(4.5,-16.5) AD17(6,-16.5) AD18(7.5,-16.5) AD19(9,-16.5) AD20(10.5,-16.5) AD21(12,-16.5) AD22(13.5,-16.5) AD23(15,-16.5) AD24(16.5,-16.5) AD25(18,-16.5) AE1(-18,-18) AE2(-16.5,-18) AE3(-15,-18) AE4(-13.5,-18) AE5(-12,-18) AE6(-10.5,-18) AE7(-9,-18) AE8(-7.5,-18) AE9(-6,-18) AE10(-4.5,-18) AE11(-3,-18) AE12(-1.5,-18) AE13(0,-18) AE14(1.5,-18) AE15(3,-18) AE16(4.5,-18) AE17(6,-18) AE18(7.5,-18) AE19(9,-18) AE20(10.5,-18) AE21(12,-18) AE22(13.5,-18) AE23(15,-18) AE24(16.5,-18) AE25(18,-18) B1(-18,16.5) B2(-16.5,16.5) B3(-15,16.5) B4(-13.5,16.5) B5(-12,16.5) B6(-10.5,16.5) B7(-9,16.5) B8(-7.5,16.5) B9(-6,16.5) B10(-4.5,16.5) B11(-3,16.5) B12(-1.5,16.5) B13(0,16.5) B14(1.5,16.5) B15(3,16.5) B16(4.5,16.5) B17(6,16.5) B18(7.5,16.5) B19(9,16.5) B20(10.5,16.5) B21(12,16.5) B22(13.5,16.5) B23(15,16.5) B24(16.5,16.5) B25(18,16.5) C1(-18,15) C2(-16.5,15) C3(-15,15) C4(-13.5,15) C5(-12,15) C6(-10.5,15) C7(-9,15) C8(-7.5,15) C9(-6,15) C10(-4.5,15) C11(-3,15) C12(-1.5,15) C13(0,15) C14(1.5,15) C15(3,15) C16(4.5,15) C17(6,15) C18(7.5,15) C19(9,15) C20(10.5,15) C21(12,15) C22(13.5,15) C23(15,15) C24(16.5,15) C25(18,15) D1(-18,13.5) D2(-16.5,13.5) D3(-15,13.5) D4(-13.5,13.5) D5(-12,13.5) D6(-10.5,13.5) D7(-9,13.5) D8(-7.5,13.5) D9(-6,13.5) D10(-4.5,13.5) D11(-3,13.5) D12(-1.5,13.5) D13(0,13.5) D14(1.5,13.5) D15(3,13.5) D16(4.5,13.5) D17(6,13.5) D18(7.5,13.5) D19(9,13.5) D20(10.5,13.5) D21(12,13.5) D22(13.5,13.5) D23(15,13.5) D24(16.5,13.5) D25(18,13.5) E1(-18,12) E2(-16.5,12) E3(-15,12) E4(-13.5,12) E5(-12,12) E6(-10.5,12) E7(-9,12) E8(-7.5,12) E9(-6,12) E10(-4.5,12) E11(-3,12) E12(-1.5,12) E13(0,12) E14(1.5,12) E15(3,12) E16(4.5,12) E17(6,12) E18(7.5,12) E19(9,12) E20(10.5,12) E21(12,12) E22(13.5,12) E23(15,12) E24(16.5,12) E25(18,12) F1(-18,10.5) F2(-16.5,10.5) F3(-15,10.5) F4(-13.5,10.5) F5(-12,10.5) F6(-10.5,10.5) F7(-9,10.5) F8(-7.5,10.5) F9(-6,10.5) F10(-4.5,10.5) F11(-3,10.5) F12(-1.5,10.5) F13(0,10.5) F14(1.5,10.5) F15(3,10.5) F16(4.5,10.5) F17(6,10.5) F18(7.5,10.5) F19(9,10.5) F20(10.5,10.5) F21(12,10.5) F22(13.5,10.5) F23(15,10.5) F24(16.5,10.5) F25(18,10.5) G1(-18,9) G2(-16.5,9) G3(-15,9) G4(-13.5,9) G5(-12,9) G6(-10.5,9) G7(-9,9) G8(-7.5,9) G9(-6,9) G10(-4.5,9) G11(-3,9) G12(-1.5,9) G13(0,9) G14(1.5,9) G15(3,9) G16(4.5,9) G17(6,9) G18(7.5,9) G19(9,9) G20(10.5,9) G21(12,9) G22(13.5,9) G23(15,9) G24(16.5,9) G25(18,9) H1(-18,7.5) H2(-16.5,7.5) H3(-15,7.5) H4(-13.5,7.5) H5(-12,7.5) H6(-10.5,7.5) H7(-9,7.5) H8(-7.5,7.5) H9(-6,7.5) H10(-4.5,7.5) H11(-3,7.5) H12(-1.5,7.5) H13(0,7.5) H14(1.5,7.5) H15(3,7.5) H16(4.5,7.5) H17(6,7.5) H18(7.5,7.5) H19(9,7.5) H20(10.5,7.5) H21(12,7.5) H22(13.5,7.5) H23(15,7.5) H24(16.5,7.5) H25(18,7.5) J1(-18,6) J2(-16.5,6) J3(-15,6) J4(-13.5,6) J5(-12,6) J6(-10.5,6) J7(-9,6) J8(-7.5,6) J9(-6,6) J10(-4.5,6) J11(-3,6) J12(-1.5,6) J13(0,6) J14(1.5,6) J15(3,6) J16(4.5,6) J17(6,6) J18(7.5,6) J19(9,6) J20(10.5,6) J21(12,6) J22(13.5,6) J23(15,6) J24(16.5,6) J25(18,6) K1(-18,4.5) K2(-16.5,4.5) K3(-15,4.5) K4(-13.5,4.5) K5(-12,4.5) K6(-10.5,4.5) K7(-9,4.5) K8(-7.5,4.5) K9(-6,4.5) K10(-4.5,4.5) K11(-3,4.5) K12(-1.5,4.5) K13(0,4.5) K14(1.5,4.5) K15(3,4.5) K16(4.5,4.5) K17(6,4.5) K18(7.5,4.5) K19(9,4.5) K20(10.5,4.5) K21(12,4.5) K22(13.5,4.5) K23(15,4.5) K24(16.5,4.5) K25(18,4.5) L1(-18,3) L2(-16.5,3) L3(-15,3) L4(-13.5,3) L5(-12,3) L6(-10.5,3) L7(-9,3) L8(-7.5,3) L9(-6,3) L10(-4.5,3) L11(-3,3) L12(-1.5,3) L13(0,3) L14(1.5,3) L15(3,3) L16(4.5,3) L17(6,3) L18(7.5,3) L19(9,3) L20(10.5,3) L21(12,3) L22(13.5,3) L23(15,3) L24(16.5,3) L25(18,3) M1(-18,1.5) M2(-16.5,1.5) M3(-15,1.5) M4(-13.5,1.5) M5(-12,1.5) M6(-10.5,1.5) M7(-9,1.5) M8(-7.5,1.5) M9(-6,1.5) M10(-4.5,1.5) M11(-3,1.5) M12(-1.5,1.5) M13(0,1.5) M14(1.5,1.5) M15(3,1.5) M16(4.5,1.5) M17(6,1.5) M18(7.5,1.5) M19(9,1.5) M20(10.5,1.5) M21(12,1.5) M22(13.5,1.5) M23(15,1.5) M24(16.5,1.5) M25(18,1.5) N1(-18,0) N2(-16.5,0) N3(-15,0) N4(-13.5,0) N5(-12,0) N6(-10.5,0) N7(-9,0) N8(-7.5,0) N9(-6,0) N10(-4.5,0) N11(-3,0) N12(-1.5,0) N13(0,0) N14(1.5,0) N15(3,0) N16(4.5,0) N17(6,0) N18(7.5,0) N19(9,0) N20(10.5,0) N21(12,0) N22(13.5,0) N23(15,0) N24(16.5,0) N25(18,0) P1(-18,-1.5) P2(-16.5,-1.5) P3(-15,-1.5) P4(-13.5,-1.5) P5(-12,-1.5) P6(-10.5,-1.5) P7(-9,-1.5) P8(-7.5,-1.5) P9(-6,-1.5) P10(-4.5,-1.5) P11(-3,-1.5) P12(-1.5,-1.5) P13(0,-1.5) P14(1.5,-1.5) P15(3,-1.5) P16(4.5,-1.5) P17(6,-1.5) P18(7.5,-1.5) P19(9,-1.5) P20(10.5,-1.5) P21(12,-1.5) P22(13.5,-1.5) P23(15,-1.5) P24(16.5,-1.5) P25(18,-1.5) R1(-18,-3) R2(-16.5,-3) R3(-15,-3) R4(-13.5,-3) R5(-12,-3) R6(-10.5,-3) R7(-9,-3) R8(-7.5,-3) R9(-6,-3) R10(-4.5,-3) R11(-3,-3) R12(-1.5,-3) R13(0,-3) R14(1.5,-3) R15(3,-3) R16(4.5,-3) R17(6,-3) R18(7.5,-3) R19(9,-3) R20(10.5,-3) R21(12,-3) R22(13.5,-3) R23(15,-3) R24(16.5,-3) R25(18,-3) T1(-18,-4.5) T2(-16.5,-4.5) T3(-15,-4.5) T4(-13.5,-4.5) T5(-12,-4.5) T6(-10.5,-4.5) T7(-9,-4.5) T8(-7.5,-4.5) T9(-6,-4.5) T10(-4.5,-4.5) T11(-3,-4.5) T12(-1.5,-4.5) T13(0,-4.5) T14(1.5,-4.5) T15(3,-4.5) T16(4.5,-4.5) T17(6,-4.5) T18(7.5,-4.5) T19(9,-4.5) T20(10.5,-4.5) T21(12,-4.5) T22(13.5,-4.5) T23(15,-4.5) T24(16.5,-4.5) T25(18,-4.5) U1(-18,-6) U2(-16.5,-6) U3(-15,-6) U4(-13.5,-6) U5(-12,-6) U6(-10.5,-6) U7(-9,-6) U8(-7.5,-6) U9(-6,-6) U10(-4.5,-6) U11(-3,-6) U12(-1.5,-6) U13(0,-6) U14(1.5,-6) U15(3,-6) U16(4.5,-6) U17(6,-6) U18(7.5,-6) U19(9,-6) U20(10.5,-6) U21(12,-6) U22(13.5,-6) U23(15,-6) U24(16.5,-6) U25(18,-6) V1(-18,-7.5) V2(-16.5,-7.5) V3(-15,-7.5) V4(-13.5,-7.5) V5(-12,-7.5) V6(-10.5,-7.5) V7(-9,-7.5) V8(-7.5,-7.5) V9(-6,-7.5) V10(-4.5,-7.5) V11(-3,-7.5) V12(-1.5,-7.5) V13(0,-7.5) V14(1.5,-7.5) V15(3,-7.5) V16(4.5,-7.5) V17(6,-7.5) V18(7.5,-7.5) V19(9,-7.5) V20(10.5,-7.5) V21(12,-7.5) V22(13.5,-7.5) V23(15,-7.5) V24(16.5,-7.5) V25(18,-7.5) W1(-18,-9) W2(-16.5,-9) W3(-15,-9) W4(-13.5,-9) W5(-12,-9) W6(-10.5,-9) W7(-9,-9) W8(-7.5,-9) W9(-6,-9) W10(-4.5,-9) W11(-3,-9) W12(-1.5,-9) W13(0,-9) W14(1.5,-9) W15(3,-9) W16(4.5,-9) W17(6,-9) W18(7.5,-9) W19(9,-9) W20(10.5,-9) W21(12,-9) W22(13.5,-9) W23(15,-9) W24(16.5,-9) W25(18,-9) Y1(-18,-10.5) Y2(-16.5,-10.5) Y3(-15,-10.5) Y4(-13.5,-10.5) Y5(-12,-10.5) Y6(-10.5,-10.5) Y7(-9,-10.5) Y8(-7.5,-10.5) Y9(-6,-10.5) Y10(-4.5,-10.5) Y11(-3,-10.5) Y12(-1.5,-10.5) Y13(0,-10.5) Y14(1.5,-10.5) Y15(3,-10.5) Y16(4.5,-10.5) Y17(6,-10.5) Y18(7.5,-10.5) Y19(9,-10.5) Y20(10.5,-10.5) Y21(12,-10.5) Y22(13.5,-10.5) Y23(15,-10.5) Y24(16.5,-10.5) Y25(18,-10.5)
Top Overlay:
  circle w0.25: c-20.65,18 r0.125
  region: -19,20 -20,19 -20,20
  lines w0.2: -20,19 -19,20 ; -20,-20 20,-20 20,20 -20,20 -20,-20
Mechanical 13:
  lines w0.1: -20,-20 20,-20 20,20 -20,20 -20,-20
Mechanical 15:
  lines w0.1: -0.5,0 0.5,0 ; 0,-0.5 0,0.5 ; -21,-21 21,-21 21,21 -21,21 -21,-21
3D body: height 3.5, standoff 0, extent -20,-20 20,20

## BGA150P26X26-676 [mm] "BGA, 676-Leads, Body 40x40mm, Pitch 1.5mm"
height 3.4
pads (676):
  round 0.6 smd: A1(-18.75,18.75) A2(-17.25,18.75) A3(-15.75,18.75) A4(-14.25,18.75) A5(-12.75,18.75) A6(-11.25,18.75) A7(-9.75,18.75) A8(-8.25,18.75) A9(-6.75,18.75) A10(-5.25,18.75) A11(-3.75,18.75) A12(-2.25,18.75) A13(-0.75,18.75) A14(0.75,18.75) A15(2.25,18.75) A16(3.75,18.75) A17(5.25,18.75) A18(6.75,18.75) A19(8.25,18.75) A20(9.75,18.75) A21(11.25,18.75) A22(12.75,18.75) A23(14.25,18.75) A24(15.75,18.75) A25(17.25,18.75) A26(18.75,18.75) AA1(-18.75,-11.25) AA2(-17.25,-11.25) AA3(-15.75,-11.25) AA4(-14.25,-11.25) AA5(-12.75,-11.25) AA6(-11.25,-11.25) AA7(-9.75,-11.25) AA8(-8.25,-11.25) AA9(-6.75,-11.25) AA10(-5.25,-11.25) AA11(-3.75,-11.25) AA12(-2.25,-11.25) AA13(-0.75,-11.25) AA14(0.75,-11.25) AA15(2.25,-11.25) AA16(3.75,-11.25) AA17(5.25,-11.25) AA18(6.75,-11.25) AA19(8.25,-11.25) AA20(9.75,-11.25) AA21(11.25,-11.25) AA22(12.75,-11.25) AA23(14.25,-11.25) AA24(15.75,-11.25) AA25(17.25,-11.25) AA26(18.75,-11.25) AB1(-18.75,-12.75) AB2(-17.25,-12.75) AB3(-15.75,-12.75) AB4(-14.25,-12.75) AB5(-12.75,-12.75) AB6(-11.25,-12.75) AB7(-9.75,-12.75) AB8(-8.25,-12.75) AB9(-6.75,-12.75) AB10(-5.25,-12.75) AB11(-3.75,-12.75) AB12(-2.25,-12.75) AB13(-0.75,-12.75) AB14(0.75,-12.75) AB15(2.25,-12.75) AB16(3.75,-12.75) AB17(5.25,-12.75) AB18(6.75,-12.75) AB19(8.25,-12.75) AB20(9.75,-12.75) AB21(11.25,-12.75) AB22(12.75,-12.75) AB23(14.25,-12.75) AB24(15.75,-12.75) AB25(17.25,-12.75) AB26(18.75,-12.75) AC1(-18.75,-14.25) AC2(-17.25,-14.25) AC3(-15.75,-14.25) AC4(-14.25,-14.25) AC5(-12.75,-14.25) AC6(-11.25,-14.25) AC7(-9.75,-14.25) AC8(-8.25,-14.25) AC9(-6.75,-14.25) AC10(-5.25,-14.25) AC11(-3.75,-14.25) AC12(-2.25,-14.25) AC13(-0.75,-14.25) AC14(0.75,-14.25) AC15(2.25,-14.25) AC16(3.75,-14.25) AC17(5.25,-14.25) AC18(6.75,-14.25) AC19(8.25,-14.25) AC20(9.75,-14.25) AC21(11.25,-14.25) AC22(12.75,-14.25) AC23(14.25,-14.25) AC24(15.75,-14.25) AC25(17.25,-14.25) AC26(18.75,-14.25) AD1(-18.75,-15.75) AD2(-17.25,-15.75) AD3(-15.75,-15.75) AD4(-14.25,-15.75) AD5(-12.75,-15.75) AD6(-11.25,-15.75) AD7(-9.75,-15.75) AD8(-8.25,-15.75) AD9(-6.75,-15.75) AD10(-5.25,-15.75) AD11(-3.75,-15.75) AD12(-2.25,-15.75) AD13(-0.75,-15.75) AD14(0.75,-15.75) AD15(2.25,-15.75) AD16(3.75,-15.75) AD17(5.25,-15.75) AD18(6.75,-15.75) AD19(8.25,-15.75) AD20(9.75,-15.75) AD21(11.25,-15.75) AD22(12.75,-15.75) AD23(14.25,-15.75) AD24(15.75,-15.75) AD25(17.25,-15.75) AD26(18.75,-15.75) AE1(-18.75,-17.25) AE2(-17.25,-17.25) AE3(-15.75,-17.25) AE4(-14.25,-17.25) AE5(-12.75,-17.25) AE6(-11.25,-17.25) AE7(-9.75,-17.25) AE8(-8.25,-17.25) AE9(-6.75,-17.25) AE10(-5.25,-17.25) AE11(-3.75,-17.25) AE12(-2.25,-17.25) AE13(-0.75,-17.25) AE14(0.75,-17.25) AE15(2.25,-17.25) AE16(3.75,-17.25) AE17(5.25,-17.25) AE18(6.75,-17.25) AE19(8.25,-17.25) AE20(9.75,-17.25) AE21(11.25,-17.25) AE22(12.75,-17.25) AE23(14.25,-17.25) AE24(15.75,-17.25) AE25(17.25,-17.25) AE26(18.75,-17.25) AF1(-18.75,-18.75) AF2(-17.25,-18.75) AF3(-15.75,-18.75) AF4(-14.25,-18.75) AF5(-12.75,-18.75) AF6(-11.25,-18.75) AF7(-9.75,-18.75) AF8(-8.25,-18.75) AF9(-6.75,-18.75) AF10(-5.25,-18.75) AF11(-3.75,-18.75) AF12(-2.25,-18.75) AF13(-0.75,-18.75) AF14(0.75,-18.75) AF15(2.25,-18.75) AF16(3.75,-18.75) AF17(5.25,-18.75) AF18(6.75,-18.75) AF19(8.25,-18.75) AF20(9.75,-18.75) AF21(11.25,-18.75) AF22(12.75,-18.75) AF23(14.25,-18.75) AF24(15.75,-18.75) AF25(17.25,-18.75) AF26(18.75,-18.75) B1(-18.75,17.25) B2(-17.25,17.25) B3(-15.75,17.25) B4(-14.25,17.25) B5(-12.75,17.25) B6(-11.25,17.25) B7(-9.75,17.25) B8(-8.25,17.25) B9(-6.75,17.25) B10(-5.25,17.25) B11(-3.75,17.25) B12(-2.25,17.25) B13(-0.75,17.25) B14(0.75,17.25) B15(2.25,17.25) B16(3.75,17.25) B17(5.25,17.25) B18(6.75,17.25) B19(8.25,17.25) B20(9.75,17.25) B21(11.25,17.25) B22(12.75,17.25) B23(14.25,17.25) B24(15.75,17.25) B25(17.25,17.25) B26(18.75,17.25) C1(-18.75,15.75) C2(-17.25,15.75) C3(-15.75,15.75) C4(-14.25,15.75) C5(-12.75,15.75) C6(-11.25,15.75) C7(-9.75,15.75) C8(-8.25,15.75) C9(-6.75,15.75) C10(-5.25,15.75) C11(-3.75,15.75) C12(-2.25,15.75) C13(-0.75,15.75) C14(0.75,15.75) C15(2.25,15.75) C16(3.75,15.75) C17(5.25,15.75) C18(6.75,15.75) C19(8.25,15.75) C20(9.75,15.75) C21(11.25,15.75) C22(12.75,15.75) C23(14.25,15.75) C24(15.75,15.75) C25(17.25,15.75) C26(18.75,15.75) D1(-18.75,14.25) D2(-17.25,14.25) D3(-15.75,14.25) D4(-14.25,14.25) D5(-12.75,14.25) D6(-11.25,14.25) D7(-9.75,14.25) D8(-8.25,14.25) D9(-6.75,14.25) D10(-5.25,14.25) D11(-3.75,14.25) D12(-2.25,14.25) D13(-0.75,14.25) D14(0.75,14.25) D15(2.25,14.25) D16(3.75,14.25) D17(5.25,14.25) D18(6.75,14.25) D19(8.25,14.25) D20(9.75,14.25) D21(11.25,14.25) D22(12.75,14.25) D23(14.25,14.25) D24(15.75,14.25) D25(17.25,14.25) D26(18.75,14.25) E1(-18.75,12.75) E2(-17.25,12.75) E3(-15.75,12.75) E4(-14.25,12.75) E5(-12.75,12.75) E6(-11.25,12.75) E7(-9.75,12.75) E8(-8.25,12.75) E9(-6.75,12.75) E10(-5.25,12.75) E11(-3.75,12.75) E12(-2.25,12.75) E13(-0.75,12.75) E14(0.75,12.75) E15(2.25,12.75) E16(3.75,12.75) E17(5.25,12.75) E18(6.75,12.75) E19(8.25,12.75) E20(9.75,12.75) E21(11.25,12.75) E22(12.75,12.75) E23(14.25,12.75) E24(15.75,12.75) E25(17.25,12.75) E26(18.75,12.75) F1(-18.75,11.25) F2(-17.25,11.25) F3(-15.75,11.25) F4(-14.25,11.25) F5(-12.75,11.25) F6(-11.25,11.25) F7(-9.75,11.25) F8(-8.25,11.25) F9(-6.75,11.25) F10(-5.25,11.25) F11(-3.75,11.25) F12(-2.25,11.25) F13(-0.75,11.25) F14(0.75,11.25) F15(2.25,11.25) F16(3.75,11.25) F17(5.25,11.25) F18(6.75,11.25) F19(8.25,11.25) F20(9.75,11.25) F21(11.25,11.25) F22(12.75,11.25) F23(14.25,11.25) F24(15.75,11.25) F25(17.25,11.25) F26(18.75,11.25) G1(-18.75,9.75) G2(-17.25,9.75) G3(-15.75,9.75) G4(-14.25,9.75) G5(-12.75,9.75) G6(-11.25,9.75) G7(-9.75,9.75) G8(-8.25,9.75) G9(-6.75,9.75) G10(-5.25,9.75) G11(-3.75,9.75) G12(-2.25,9.75) G13(-0.75,9.75) G14(0.75,9.75) G15(2.25,9.75) G16(3.75,9.75) G17(5.25,9.75) G18(6.75,9.75) G19(8.25,9.75) G20(9.75,9.75) G21(11.25,9.75) G22(12.75,9.75) G23(14.25,9.75) G24(15.75,9.75) G25(17.25,9.75) G26(18.75,9.75) H1(-18.75,8.25) H2(-17.25,8.25) H3(-15.75,8.25) H4(-14.25,8.25) H5(-12.75,8.25) H6(-11.25,8.25) H7(-9.75,8.25) H8(-8.25,8.25) H9(-6.75,8.25) H10(-5.25,8.25) H11(-3.75,8.25) H12(-2.25,8.25) H13(-0.75,8.25) H14(0.75,8.25) H15(2.25,8.25) H16(3.75,8.25) H17(5.25,8.25) H18(6.75,8.25) H19(8.25,8.25) H20(9.75,8.25) H21(11.25,8.25) H22(12.75,8.25) H23(14.25,8.25) H24(15.75,8.25) H25(17.25,8.25) H26(18.75,8.25) J1(-18.75,6.75) J2(-17.25,6.75) J3(-15.75,6.75) J4(-14.25,6.75) J5(-12.75,6.75) J6(-11.25,6.75) J7(-9.75,6.75) J8(-8.25,6.75) J9(-6.75,6.75) J10(-5.25,6.75) J11(-3.75,6.75) J12(-2.25,6.75) J13(-0.75,6.75) J14(0.75,6.75) J15(2.25,6.75) J16(3.75,6.75) J17(5.25,6.75) J18(6.75,6.75) J19(8.25,6.75) J20(9.75,6.75) J21(11.25,6.75) J22(12.75,6.75) J23(14.25,6.75) J24(15.75,6.75) J25(17.25,6.75) J26(18.75,6.75) K1(-18.75,5.25) K2(-17.25,5.25) K3(-15.75,5.25) K4(-14.25,5.25) K5(-12.75,5.25) K6(-11.25,5.25) K7(-9.75,5.25) K8(-8.25,5.25) K9(-6.75,5.25) K10(-5.25,5.25) K11(-3.75,5.25) K12(-2.25,5.25) K13(-0.75,5.25) K14(0.75,5.25) K15(2.25,5.25) K16(3.75,5.25) K17(5.25,5.25) K18(6.75,5.25) K19(8.25,5.25) K20(9.75,5.25) K21(11.25,5.25) K22(12.75,5.25) K23(14.25,5.25) K24(15.75,5.25) K25(17.25,5.25) K26(18.75,5.25) L1(-18.75,3.75) L2(-17.25,3.75) L3(-15.75,3.75) L4(-14.25,3.75) L5(-12.75,3.75) L6(-11.25,3.75) L7(-9.75,3.75) L8(-8.25,3.75) L9(-6.75,3.75) L10(-5.25,3.75) L11(-3.75,3.75) L12(-2.25,3.75) L13(-0.75,3.75) L14(0.75,3.75) L15(2.25,3.75) L16(3.75,3.75) L17(5.25,3.75) L18(6.75,3.75) L19(8.25,3.75) L20(9.75,3.75) L21(11.25,3.75) L22(12.75,3.75) L23(14.25,3.75) L24(15.75,3.75) L25(17.25,3.75) L26(18.75,3.75) M1(-18.75,2.25) M2(-17.25,2.25) M3(-15.75,2.25) M4(-14.25,2.25) M5(-12.75,2.25) M6(-11.25,2.25) M7(-9.75,2.25) M8(-8.25,2.25) M9(-6.75,2.25) M10(-5.25,2.25) M11(-3.75,2.25) M12(-2.25,2.25) M13(-0.75,2.25) M14(0.75,2.25) M15(2.25,2.25) M16(3.75,2.25) M17(5.25,2.25) M18(6.75,2.25) M19(8.25,2.25) M20(9.75,2.25) M21(11.25,2.25) M22(12.75,2.25) M23(14.25,2.25) M24(15.75,2.25) M25(17.25,2.25) M26(18.75,2.25) N1(-18.75,0.75) N2(-17.25,0.75) N3(-15.75,0.75) N4(-14.25,0.75) N5(-12.75,0.75) N6(-11.25,0.75) N7(-9.75,0.75) N8(-8.25,0.75) N9(-6.75,0.75) N10(-5.25,0.75) N11(-3.75,0.75) N12(-2.25,0.75) N13(-0.75,0.75) N14(0.75,0.75) N15(2.25,0.75) N16(3.75,0.75) N17(5.25,0.75) N18(6.75,0.75) N19(8.25,0.75) N20(9.75,0.75) N21(11.25,0.75) N22(12.75,0.75) N23(14.25,0.75) N24(15.75,0.75) N25(17.25,0.75) N26(18.75,0.75) P1(-18.75,-0.75) P2(-17.25,-0.75) P3(-15.75,-0.75) P4(-14.25,-0.75) P5(-12.75,-0.75) P6(-11.25,-0.75) P7(-9.75,-0.75) P8(-8.25,-0.75) P9(-6.75,-0.75) P10(-5.25,-0.75) P11(-3.75,-0.75) P12(-2.25,-0.75) P13(-0.75,-0.75) P14(0.75,-0.75) P15(2.25,-0.75) P16(3.75,-0.75) P17(5.25,-0.75) P18(6.75,-0.75) P19(8.25,-0.75) P20(9.75,-0.75) P21(11.25,-0.75) P22(12.75,-0.75) P23(14.25,-0.75) P24(15.75,-0.75) P25(17.25,-0.75) P26(18.75,-0.75) R1(-18.75,-2.25) R2(-17.25,-2.25) R3(-15.75,-2.25) R4(-14.25,-2.25) R5(-12.75,-2.25) R6(-11.25,-2.25) R7(-9.75,-2.25) R8(-8.25,-2.25) R9(-6.75,-2.25) R10(-5.25,-2.25) R11(-3.75,-2.25) R12(-2.25,-2.25) R13(-0.75,-2.25) R14(0.75,-2.25) R15(2.25,-2.25) R16(3.75,-2.25) R17(5.25,-2.25) R18(6.75,-2.25) R19(8.25,-2.25) R20(9.75,-2.25) R21(11.25,-2.25) R22(12.75,-2.25) R23(14.25,-2.25) R24(15.75,-2.25) R25(17.25,-2.25) R26(18.75,-2.25) T1(-18.75,-3.75) T2(-17.25,-3.75) T3(-15.75,-3.75) T4(-14.25,-3.75) T5(-12.75,-3.75) T6(-11.25,-3.75) T7(-9.75,-3.75) T8(-8.25,-3.75) T9(-6.75,-3.75) T10(-5.25,-3.75) T11(-3.75,-3.75) T12(-2.25,-3.75) T13(-0.75,-3.75) T14(0.75,-3.75) T15(2.25,-3.75) T16(3.75,-3.75) T17(5.25,-3.75) T18(6.75,-3.75) T19(8.25,-3.75) T20(9.75,-3.75) T21(11.25,-3.75) T22(12.75,-3.75) T23(14.25,-3.75) T24(15.75,-3.75) T25(17.25,-3.75) T26(18.75,-3.75) U1(-18.75,-5.25) U2(-17.25,-5.25) U3(-15.75,-5.25) U4(-14.25,-5.25) U5(-12.75,-5.25) U6(-11.25,-5.25) U7(-9.75,-5.25) U8(-8.25,-5.25) U9(-6.75,-5.25) U10(-5.25,-5.25) U11(-3.75,-5.25) U12(-2.25,-5.25) U13(-0.75,-5.25) U14(0.75,-5.25) U15(2.25,-5.25) U16(3.75,-5.25) U17(5.25,-5.25) U18(6.75,-5.25) U19(8.25,-5.25) U20(9.75,-5.25) U21(11.25,-5.25) U22(12.75,-5.25) U23(14.25,-5.25) U24(15.75,-5.25) U25(17.25,-5.25) U26(18.75,-5.25) V1(-18.75,-6.75) V2(-17.25,-6.75) V3(-15.75,-6.75) V4(-14.25,-6.75) V5(-12.75,-6.75) V6(-11.25,-6.75) V7(-9.75,-6.75) V8(-8.25,-6.75) V9(-6.75,-6.75) V10(-5.25,-6.75) V11(-3.75,-6.75) V12(-2.25,-6.75) V13(-0.75,-6.75) V14(0.75,-6.75) V15(2.25,-6.75) V16(3.75,-6.75) V17(5.25,-6.75) V18(6.75,-6.75) V19(8.25,-6.75) V20(9.75,-6.75) V21(11.25,-6.75) V22(12.75,-6.75) V23(14.25,-6.75) V24(15.75,-6.75) V25(17.25,-6.75) V26(18.75,-6.75) W1(-18.75,-8.25) W2(-17.25,-8.25) W3(-15.75,-8.25) W4(-14.25,-8.25) W5(-12.75,-8.25) W6(-11.25,-8.25) W7(-9.75,-8.25) W8(-8.25,-8.25) W9(-6.75,-8.25) W10(-5.25,-8.25) W11(-3.75,-8.25) W12(-2.25,-8.25) W13(-0.75,-8.25) W14(0.75,-8.25) W15(2.25,-8.25) W16(3.75,-8.25) W17(5.25,-8.25) W18(6.75,-8.25) W19(8.25,-8.25) W20(9.75,-8.25) W21(11.25,-8.25) W22(12.75,-8.25) W23(14.25,-8.25) W24(15.75,-8.25) W25(17.25,-8.25) W26(18.75,-8.25) Y1(-18.75,-9.75) Y2(-17.25,-9.75) Y3(-15.75,-9.75) Y4(-14.25,-9.75) Y5(-12.75,-9.75) Y6(-11.25,-9.75) Y7(-9.75,-9.75) Y8(-8.25,-9.75) Y9(-6.75,-9.75) Y10(-5.25,-9.75) Y11(-3.75,-9.75) Y12(-2.25,-9.75) Y13(-0.75,-9.75) Y14(0.75,-9.75) Y15(2.25,-9.75) Y16(3.75,-9.75) Y17(5.25,-9.75) Y18(6.75,-9.75) Y19(8.25,-9.75) Y20(9.75,-9.75) Y21(11.25,-9.75) Y22(12.75,-9.75) Y23(14.25,-9.75) Y24(15.75,-9.75) Y25(17.25,-9.75) Y26(18.75,-9.75)
Top Overlay:
  circle w0.25: c-20.65,18.75 r0.125
  region: -19,20 -20,19 -20,20
  lines w0.2: -20,19 -19,20 ; -20,-20 20,-20 20,20 -20,20 -20,-20
Mechanical 13:
  lines w0.1: -20,-20 20,-20 20,20 -20,20 -20,-20
Mechanical 15:
  lines w0.1: -0.5,0 0.5,0 ; 0,-0.5 0,0.5 ; -21,-21 21,-21 21,21 -21,21 -21,-21
3D body: height 3.4, standoff 0, extent -20,-20 20,20